# Altium schematic symbol library USBULC6-2M6.SchLib: 1 symbol
Pins are listed as number, name and electrical type; pins without a type are passive.

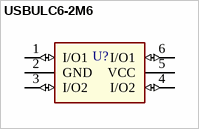
[diagram p0: symbol USBULC6-2M6]

## USBULC6-2M6
designator U?
Ultra large bandwidth ESD protection
footprint Micro_QFN_6L (1.45x1.00)
pins: 1 I/O1 (io), 2 GND (power), 3 I/O2 (io), 4 I/O2 (io), 5 VCC (power), 6 I/O1 (io)